# Altium schematic symbol library 7.5mm_NTC_THT.SchLib: 1 symbol
Pins are listed as number, name and electrical type; pins without a type are passive.

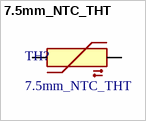
[diagram p0: symbol 7.5mm_NTC_THT]

## 7.5mm_NTC_THT
designator TH?
10Ω 3A Plugin,P=7.5mm  NTC Thermistors ROHS_C53820; LCSC: *
footprint 7.5mm_NTC_THT
pins: 1, 2